# Altium integrated library Dallas Power Mgt Kickstarter.IntLib: 4 symbols
Pins are listed as number, name and electrical type; pins without a type are passive.

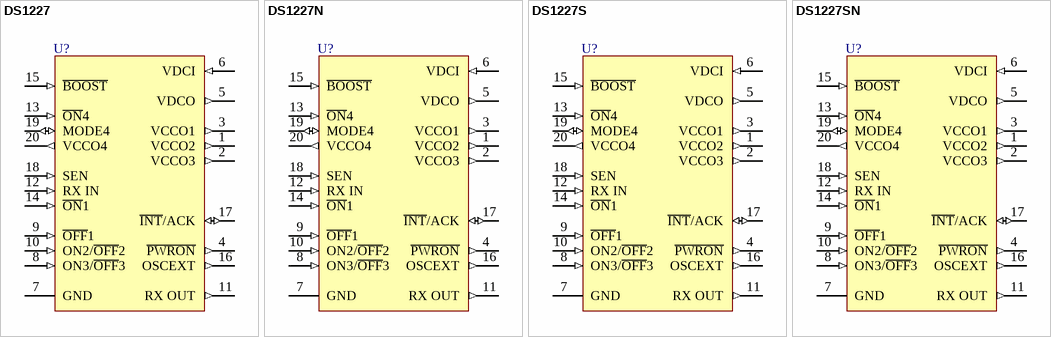
[diagram p0: symbols DS1227 to DS1227SN]

## DS1227
designator U?
KickStarter Chip; Published: 13-Oct-2000; LatestRevisionDate: 06-Jun-2005; LatestRevisionNote: Stylized 3D Model Added.; DatasheetVersion: 14-Feb-1992; PackageVersion: 1999; PackageReference: DIP20; Publisher: Altium Limited; PackageDescription: DIP; 20 Leads; Row Spacing 7.62 mm; Pitch 2.54 mm; Code_JEDEC: MS-001-AD; ComponentLink1Description: Manufacturer Link; ComponentLink1URL: http://www.maxim-ic.com/; ComponentLink2Description: Discontinuation Notice; ComponentLink2URL: http://www.maxim-ic.com/qa/pdfs/non-obsolescence-letter.pdf
footprint DIP20 (DIP; 20 Leads; Row Spacing 7.62 mm; Pitch 2.54 mm)
3D model DIP20 (DIP; 20 Leads; Row Spacing 7.62 mm; Pitch 2.54 mm)
pins: 1 VCCO2 (out), 2 VCCO3 (out), 3 VCCO1 (out), 4 ~{PWRON} (out), 5 VDCO (out), 6 VDCI (in), 7 GND (power), 8 ON3/~{OFF}3 (in), 9 ~{OFF}1 (in), 10 ON2/~{OFF}2 (in), 11 RX OUT (out), 12 RX IN (in), 13 ~{ON}4 (in), 14 ~{ON}1 (in), 15 ~{BOOST} (in), 16 OSCEXT (out), 17 ~{INT}/ACK (io), 18 SEN (in), 19 MODE4 (io), 20 VCCO4 (out)

## DS1227N
designator U?
KickStarter Chip; Published: 13-Oct-2000; LatestRevisionDate: 06-Jun-2005; LatestRevisionNote: Stylized 3D Model Added.; DatasheetVersion: 26-Feb-1998; PackageVersion: 1999; PackageReference: DIP20; Publisher: Altium Limited; PackageDescription: DIP; 20 Leads; Row Spacing 7.62 mm; Pitch 2.54 mm; Code_JEDEC: MS-001-AD; ComponentLink1Description: Manufacturer Link; ComponentLink1URL: http://www.maxim-ic.com/; ComponentLink2Description: Datasheet; ComponentLink2URL: http://pdfserv.maxim-ic.com/en/ds/DS1225Y.pdf; ComponentLink3Description: Discontinuation Notice; ComponentLink3URL: http://www.maxim-ic.com/qa/pdfs/non-obsolescence-letter.pdf
footprint DIP20 (DIP; 20 Leads; Row Spacing 7.62 mm; Pitch 2.54 mm)
3D model DIP20 (DIP; 20 Leads; Row Spacing 7.62 mm; Pitch 2.54 mm)
pins: 1 VCCO2 (out), 2 VCCO3 (out), 3 VCCO1 (out), 4 ~{PWRON} (out), 5 VDCO (out), 6 VDCI (in), 7 GND (power), 8 ON3/~{OFF}3 (in), 9 ~{OFF}1 (in), 10 ON2/~{OFF}2 (in), 11 RX OUT (out), 12 RX IN (in), 13 ~{ON}4 (in), 14 ~{ON}1 (in), 15 ~{BOOST} (in), 16 OSCEXT (out), 17 ~{INT}/ACK (io), 18 SEN (in), 19 MODE4 (io), 20 VCCO4 (out)

## DS1227S
designator U?
KickStarter Chip; Published: 13-Oct-2000; LatestRevisionDate: 13-Apr-2006; LatestRevisionNote: IPC-7351 Footprint Added.; DatasheetVersion: 14-Feb-1992; PackageVersion: 1994; PackageReference: SOIC20A; Publisher: Altium Limited; PackageDescription: 20-Pin Small Outline Integrated Circuit 1.27 mm Pitch; ComponentLink1Description: Manufacturer Link; ComponentLink1URL: http://www.maxim-ic.com/; ComponentLink2Description: Discontinuation Notice; ComponentLink2URL: http://www.maxim-ic.com/qa/pdfs/non-obsolescence-letter.pdf
footprint SOIC20A_N (SOIC, 20-Leads, Body 12.8x7.5mm, Pitch 1.27mm, IPC Medium Density)
footprint SOIC20A_L (SOIC, 20-Leads, Body 12.8x7.5mm, Pitch 1.27mm, IPC High Density)
footprint SOIC20A_M (SOIC, 20-Leads, Body 12.8x7.5mm, Pitch 1.27mm, IPC Low Density)
3D model SOIC20 (20-Pin Small Outline Integrated Circuit 1.27 mm Pitch)
pins: 1 VCCO2 (out), 2 VCCO3 (out), 3 VCCO1 (out), 4 ~{PWRON} (out), 5 VDCO (out), 6 VDCI (in), 7 GND (power), 8 ON3/~{OFF}3 (in), 9 ~{OFF}1 (in), 10 ON2/~{OFF}2 (in), 11 RX OUT (out), 12 RX IN (in), 13 ~{ON}4 (in), 14 ~{ON}1 (in), 15 ~{BOOST} (in), 16 OSCEXT (out), 17 ~{INT}/ACK (io), 18 SEN (in), 19 MODE4 (io), 20 VCCO4 (out)

## DS1227SN
designator U?
KickStarter Chip; Published: 13-Oct-2000; LatestRevisionDate: 13-Apr-2006; LatestRevisionNote: IPC-7351 Footprint Added.; DatasheetVersion: 26-Feb-1998; PackageVersion: 1999; PackageReference: SOIC20; Publisher: Altium Limited; PackageDescription: 20-Pin Small Outline Integrated Circuit 1.27 mm Pitch; ComponentLink1Description: Manufacturer Link; ComponentLink1URL: http://www.maxim-ic.com/; ComponentLink2Description: Discontinuation Notice; ComponentLink2URL: http://www.maxim-ic.com/qa/pdfs/non-obsolescence-letter.pdf
footprint SOIC20_N (SOIC, 20-Leads, Body 12.8x7.5mm, Pitch 1.27mm, IPC Medium Density)
footprint SOIC20_L (SOIC, 20-Leads, Body 12.8x7.5mm, Pitch 1.27mm, IPC High Density)
footprint SOIC20_M (SOIC, 20-Leads, Body 12.8x7.5mm, Pitch 1.27mm, IPC Low Density)
3D model SOIC20 (20-Pin Small Outline Integrated Circuit 1.27 mm Pitch)
pins: 1 VCCO2 (out), 2 VCCO3 (out), 3 VCCO1 (out), 4 ~{PWRON} (out), 5 VDCO (out), 6 VDCI (in), 7 GND (power), 8 ON3/~{OFF}3 (in), 9 ~{OFF}1 (in), 10 ON2/~{OFF}2 (in), 11 RX OUT (out), 12 RX IN (in), 13 ~{ON}4 (in), 14 ~{ON}1 (in), 15 ~{BOOST} (in), 16 OSCEXT (out), 17 ~{INT}/ACK (io), 18 SEN (in), 19 MODE4 (io), 20 VCCO4 (out)